# Altium schematic symbol library OPA690IDBV.SchLib: 1 symbol
Pins are listed as number, name and electrical type; pins without a type are passive.

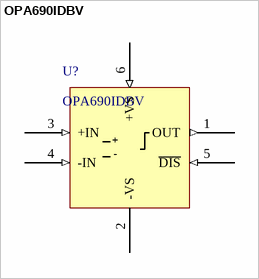
[diagram p0: symbol OPA690IDBV]

## OPA690IDBV
designator U?
pins: 1 OUT (out), 2 -VS (power), 3 +IN (in), 4 -IN (in), 5 ~{DIS} (in), 6 +VS (in)
text: +; -